# Altium footprint library PCB - CONNECTOR - JST - JST SM02B-PASS-TB.PCBLIB: 1 footprints
Each footprint in its own frame and in the unit in brackets; x right, y up, seen from the top. Pads: shape width x height; smd on the part's side, far side on the other; paste and mask are expansions set on the pad; w line width, h text height; cw(c..) or ccw(c..) is an arc to the next point about the centre after c.
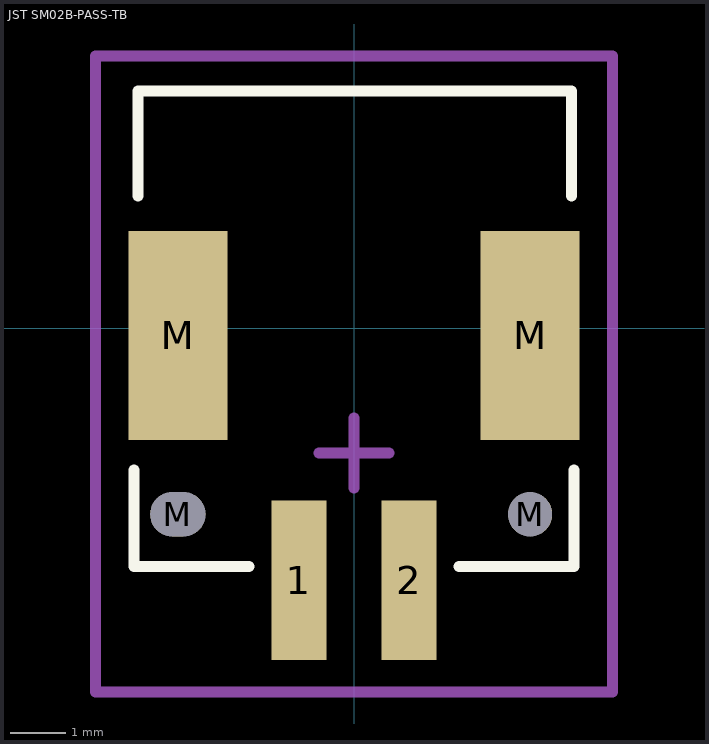
[diagram p0: the footprint, top view; thin cyan lines are the x and y axes]

## JST SM02B-PASS-TB [mm] "JST PA Series 2mm pitch, side entry connector"
height 5.7
pads (6):
  rect 1x2.9 smd: 1(-1,-4.575) 2(1,-4.575)
  oval 1x0.8 hole 0.8 slot 1 at 0 deg unplated mask+0.102: M(-3.2,-3.375)
  rect 1.8x3.8 smd: M(-3.2,-0.125) M(3.2,-0.125)
  round 0.8 hole 0.8 unplated mask+0.102: M(3.2,-3.375)
Top Overlay:
  lines w0.2: -4,-2.575 -4,-4.325 -1.905,-4.325 ; -3.921,2.41 -3.921,4.315 3.953,4.315 3.953,2.41 ; 1.905,-4.325 4,-4.325 4,-2.575
Mechanical 15:
  lines w0.2: -0.635,-2.265 0.635,-2.265 ; 0,-2.9 0,-1.63 ; -4.699,-6.607 4.699,-6.607 4.699,4.953 -4.699,4.953 -4.699,-6.607
3D body "JST SM02B-PASS-TB.STEP": height 5.8, standoff 0, extent -4,-5.641 4,4.359